# Altium integrated library ch.ntb.inf.altiumlib_2011-02-10.IntLib: 2 symbols
Pins are listed as number, name and electrical type; pins without a type are passive.

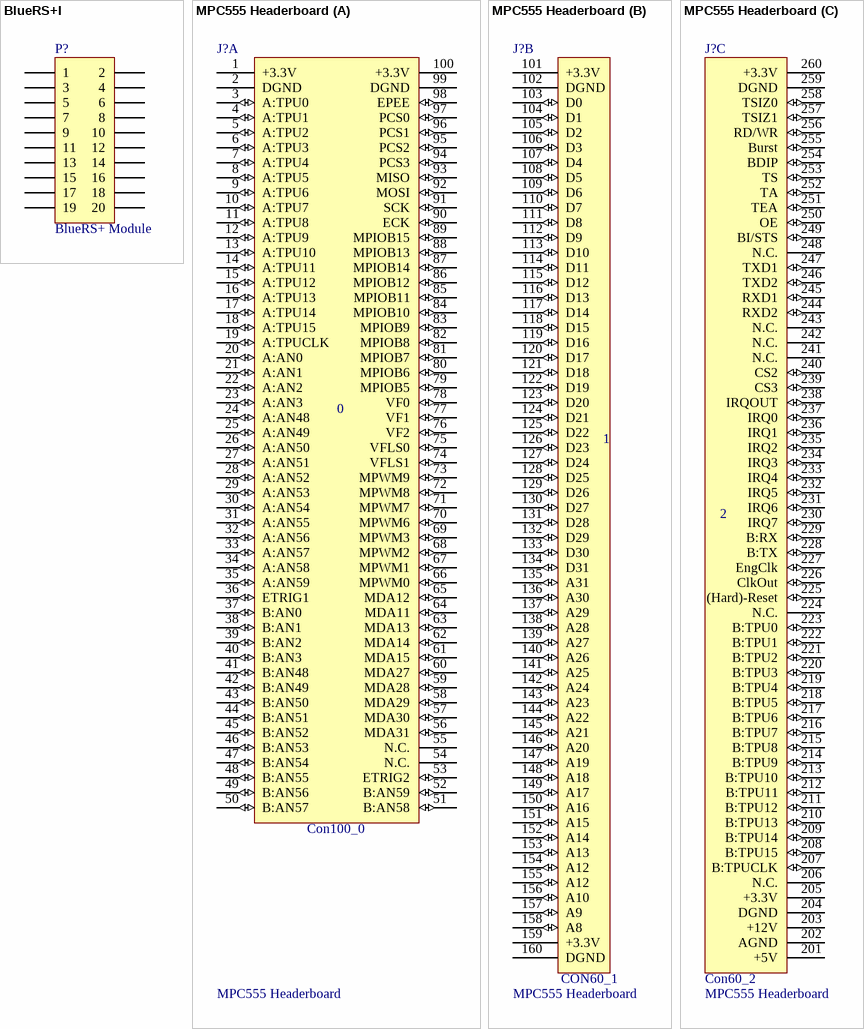
[diagram p0: symbols BlueRS+I to MPC555 Headerboard]

## BlueRS+I
designator P?, comment BlueRS+ Module
Stollman BlueRS+I Module
footprint BlueRS+I (Stollmann BlueRS+I Module with 2x10 Header (2mm))
pins: 1, 2, 3, 4, 5, 6, 7, 8, 9, 10, 11, 12, 13, 14, 15, 16, 17, 18, 19, 20

## MPC555 Headerboard
designator J?
NTB MPC555 Headerboard
footprint MPC555 Headerboard SMT (Connectors for NTB MPC555 Header Board (SMT))
footprint MPC555 Headerboard THT (Connectors for NTB MPC555 Header Board (THT))
part A pins: 1 +3.3V (power), 2 DGND (power), 3 A:TPU0 (io), 4 A:TPU1 (io), 5 A:TPU2 (io), 6 A:TPU3 (io), 7 A:TPU4 (io), 8 A:TPU5 (io), 9 A:TPU6 (io), 10 A:TPU7 (io), 11 A:TPU8 (io), 12 A:TPU9 (io), 13 A:TPU10 (io), 14 A:TPU11 (io), 15 A:TPU12 (io), 16 A:TPU13 (io), 17 A:TPU14 (io), 18 A:TPU15 (io), 19 A:TPUCLK (io), 20 A:AN0 (io), 21 A:AN1 (io), 22 A:AN2 (io), 23 A:AN3 (io), 24 A:AN48 (io), 25 A:AN49 (io), 26 A:AN50 (io), 27 A:AN51 (io), 28 A:AN52 (io), 29 A:AN53 (io), 30 A:AN54 (io), 31 A:AN55 (io), 32 A:AN56 (io), 33 A:AN57 (io), 34 A:AN58 (io), 35 A:AN59 (io), 36 ETRIG1 (io), 37 B:AN0 (io), 38 B:AN1 (io), 39 B:AN2 (io), 40 B:AN3 (io), 41 B:AN48 (io), 42 B:AN49 (io), 43 B:AN50 (io), 44 B:AN51 (io), 45 B:AN52 (io), 46 B:AN53 (io), 47 B:AN54 (io), 48 B:AN55 (io), 49 B:AN56 (io), 50 B:AN57 (io), 51 B:AN58 (io), 52 B:AN59 (io), 53 ETRIG2 (io), 54 N.C. (hiz), 55 N.C. (hiz), 56 MDA31 (io), 57 MDA30 (io), 58 MDA29 (io), 59 MDA28 (io), 60 MDA27 (io), 61 MDA15 (io), 62 MDA14 (io), 63 MDA13 (io), 64 MDA11 (io), 65 MDA12 (io), 66 MPWM0 (io), 67 MPWM1 (io), 68 MPWM2 (io), 69 MPWM3 (io), 70 MPWM6 (io), 71 MPWM7 (io), 72 MPWM8 (io), 73 MPWM9 (io), 74 VFLS1 (io), 75 VFLS0 (io), 76 VF2 (io), 77 VF1 (io), 78 VF0 (io), 79 MPIOB5 (io), 80 MPIOB6 (io), 81 MPIOB7 (io), 82 MPIOB8 (io), 83 MPIOB9 (io), 84 MPIOB10 (io), 85 MPIOB11 (io), 86 MPIOB12 (io), 87 MPIOB14 (io), 88 MPIOB13 (io), 89 MPIOB15 (io), 90 ECK (io), 91 SCK (io), 92 MOSI (io), 93 MISO (io), 94 PCS3 (io), 95 PCS2 (io), 96 PCS1 (io), 97 PCS0 (io), 98 EPEE (io), 99 DGND (power), 100 +3.3V (power)
part B pins: 101 +3.3V (power), 102 DGND (power), 103 D0 (io), 104 D1 (io), 105 D2 (io), 106 D3 (io), 107 D4 (io), 108 D5 (io), 109 D6 (io), 110 D7 (io), 111 D8 (io), 112 D9 (io), 113 D10 (io), 114 D11 (io), 115 D12 (io), 116 D13 (io), 117 D14 (io), 118 D15 (io), 119 D16 (io), 120 D17 (io), 121 D18 (io), 122 D19 (io), 123 D20 (io), 124 D21 (io), 125 D22 (io), 126 D23 (io), 127 D24 (io), 128 D25 (io), 129 D26 (io), 130 D27 (io), 131 D28 (io), 132 D29 (io), 133 D30 (io), 134 D31 (io), 135 A31 (io), 136 A30 (io), 137 A29 (io), 138 A28 (io), 139 A27 (io), 140 A26 (io), 141 A25 (io), 142 A24 (io), 143 A23 (io), 144 A22 (io), 145 A21 (io), 146 A20 (io), 147 A19 (io), 148 A18 (io), 149 A17 (io), 150 A16 (io), 151 A15 (io), 152 A14 (io), 153 A13 (io), 154 A12 (io), 155 A12 (io), 156 A10 (io), 157 A9 (io), 158 A8 (io), 159 +3.3V (power), 160 DGND (power)
part C pins: 201 +5V (power), 202 AGND (power), 203 +12V (power), 204 DGND (power), 205 +3.3V (power), 206 N.C. (hiz), 207 B:TPUCLK (io), 208 B:TPU15 (io), 209 B:TPU14 (io), 210 B:TPU13 (io), 211 B:TPU12 (io), 212 B:TPU11 (io), 213 B:TPU10 (io), 214 B:TPU9 (io), 215 B:TPU8 (io), 216 B:TPU7 (io), 217 B:TPU6 (io), 218 B:TPU5 (io), 219 B:TPU4 (io), 220 B:TPU3 (io), 221 B:TPU2 (io), 222 B:TPU1 (io), 223 B:TPU0 (io), 224 N.C. (hiz), 225 (Hard)-Reset (io), 226 ClkOut (io), 227 EngClk (io), 228 B:TX (io), 229 B:RX (io), 230 IRQ7 (io), 231 IRQ6 (io), 232 IRQ5 (io), 233 IRQ4 (io), 234 IRQ3 (io), 235 IRQ2 (io), 236 IRQ1 (io), 237 IRQ0 (io), 238 IRQOUT (io), 239 CS3 (io), 240 CS2 (io), 241 N.C. (hiz), 242 N.C. (hiz), 243 N.C. (hiz), 244 RXD2 (io), 245 RXD1 (io), 246 TXD2 (io), 247 TXD1 (io), 248 N.C. (hiz), 249 BI/STS (io), 250 OE (io), 251 TEA (io), 252 TA (io), 253 TS (io), 254 BDIP (io), 255 Burst (io), 256 RD/WR (io), 257 TSIZ1 (io), 258 TSIZ0 (io), 259 DGND (power), 260 +3.3V (power)
part A text: 0; Con100_0
part B text: CON60_1
part C text: Con60_2